# EAGLE library part TCMD4000 (library SFH6916)
Transistor Output Optocouplers Photodarlington Out Quad CTR >600% Source: Datasheet <https://www.vishay.com/docs/83513/tcmd1000.pdf>
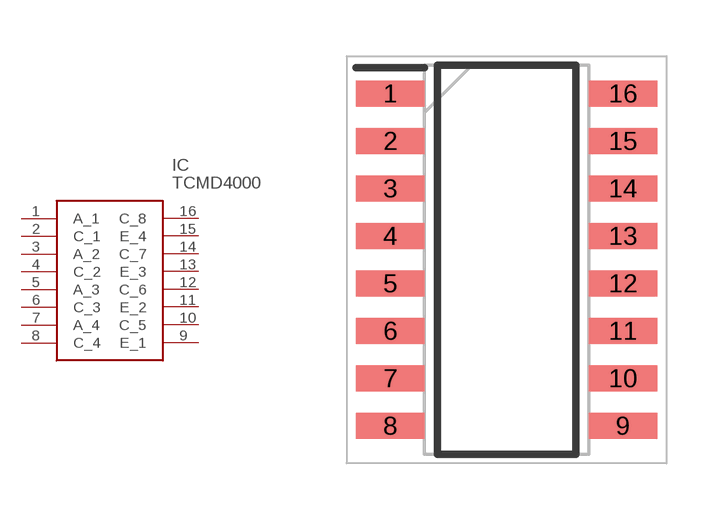
[diagram p0: symbol with the pads of SOIC127P695X210-16N; footprint SOIC127P695X210-16N]

Designator prefix IC

## TCMD4000 (Description: Transistor Output Optocouplers Photodarlington Out Quad CTR >600%; Height: 2.1mm; Manufacturer_Name: Vishay; Manufacturer_Part_Number: TCMD4000; Mouser_Part_Number: 782-TCMD4000; Mouser_Price-Stock: https://www.mouser.com/Search/Refine.aspx?Keyword=782-TCMD4000)  [SOIC127P695X210-16N]
1  A_1
2  C_1
3  A_2
4  C_2
5  A_3
6  C_3
7  A_4
8  C_4
9  E_1
10  C_5
11  E_2
12  C_6
13  E_3
14  C_7
15  E_4
16  C_8

## Footprint SOIC127P695X210-16N (pad centres in mm)
Half Pitch Mini-Flat Package (SOP-16)_1
smd 1.825 x 0.7: 1 -3.112,4.445; 2 -3.112,3.175; 3 -3.112,1.905; 4 -3.112,0.635; 5 -3.112,-0.635; 6 -3.112,-1.905; 7 -3.112,-3.175; 8 -3.112,-4.445; 9 3.112,-4.445; 10 3.112,-3.175; 11 3.112,-1.905; 12 3.112,-0.635; 13 3.112,0.635; 14 3.112,1.905; 15 3.112,3.175; 16 3.112,4.445